# EAGLE library part MCP3008-I/? (library MCP)
310990040 Check prices <https://pricing.snapeda.com/parts/MCP3008-I/P/Microchip/view-part?ref=eda>
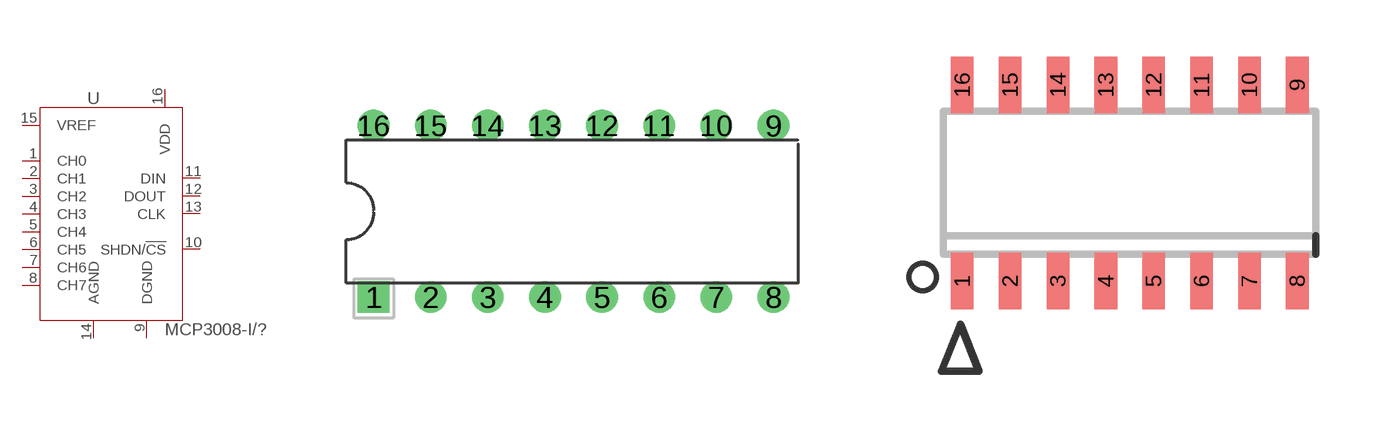
[diagram p3: symbol with the pads of DIP16-2.54-19.2X7.62MM; footprints DIP16-2.54-19.2X7.62MM, SOIC16N]

Designator prefix U

## MCP3008-I/P (MF: Microchip; MPN: MCP3008-I/P)  [DIP16-2.54-19.2X7.62MM]
1  CH0  in
2  CH1  in
3  CH2  in
4  CH3  in
5  CH4  in
6  CH5  in
7  CH6  in
8  CH7  in
9  DGND  in
10  SHDN/!CS  in
11  DIN  in
12  DOUT  out
13  CLK  in
14  AGND  in
15  VREF  in
16  VDD  in

## MCP3008-I/SL  [SOIC16N]
Pads as for DIP16-2.54-19.2X7.62MM

## MCP3008-I/ST  [TSSOP-16]
Pads as for DIP16-2.54-19.2X7.62MM

## Footprint DIP16-2.54-19.2X7.62MM (pad centres in mm)
drill 0.9 pad 1.4 square: 1 -8.89,-3.81
drill 0.9 pad 1.4: 2 -6.35,-3.81; 3 -3.81,-3.81; 4 -1.27,-3.81; 5 1.27,-3.81; 6 3.81,-3.81; 7 6.35,-3.81; 8 8.89,-3.81; 9 8.89,3.81; 10 6.35,3.81; 11 3.81,3.81; 12 1.27,3.81; 13 -1.27,3.81; 14 -3.81,3.81; 15 -6.35,3.81; 16 -8.89,3.81

## Footprint SOIC16N (pad centres in mm)
SMALL OUTLINE INTEGRATED CIRCUIT
smd 0.6 x 1.5: 1 -4.445,-2.6; 2 -3.175,-2.6; 3 -1.905,-2.6; 4 -0.635,-2.6; 5 0.635,-2.6; 6 1.905,-2.6; 7 3.175,-2.6; 8 4.445,-2.6; 9 4.445,2.6; 10 3.175,2.6; 11 1.905,2.6; 12 0.635,2.6; 13 -0.635,2.6; 14 -1.905,2.6; 15 -3.175,2.6; 16 -4.445,2.6

## Footprint TSSOP-16 (pad centres in mm)
smd 0.35 x 1.4: 1 -2.275,-2.875; 2 -1.625,-2.875; 3 -0.975,-2.875; 4 -0.325,-2.875; 5 0.325,-2.875; 6 0.975,-2.875; 7 1.625,-2.875; 8 2.275,-2.875; 9 2.275,2.875; 10 1.625,2.875; 11 0.975,2.875; 12 0.325,2.875; 13 -0.325,2.875; 14 -0.975,2.875; 15 -1.625,2.875; 16 -2.275,2.875